# Altium integrated library 5 pos term.IntLib: 1 symbol
Pins are listed as number, name and electrical type; pins without a type are passive.

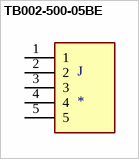
[diagram p0: symbol TB002-500-05BE]

## TB002-500-05BE
designator J
2~24 Poles, Screw Type, Horizontal, 5.0 Pitch, 22~12 _AWG_, Terminal Block Connector; MF: CUI Devices; MP: TB002-500-05BE; Digi-Key_Part_Number: 102-6148-ND; SnapEDA_Link: https://www.snapeda.com/parts/TB002-500-05BE/CUI%20Devices/view-part/3590422/?ref=snap; DigiKey-Purchase-URL: https://snapeda.com/shop?store=DigiKey&id=3590422; Package: None; CUI_purchase_URL: https://www.cuidevices.com/product/interconnect/connectors/terminal-blocks/tb002-500-series?utm_source=snapeda.com&utm_medium=referral&utm_campaign=snapedaBOM; Value: *
footprint CUI_TB002-500-05BE
pins: 1, 2, 3, 4, 5